# Altium schematic symbol library kmilo17pet-LT_OpAmp_LT1000.SchLib: 2280 symbols (part 26 of 79)
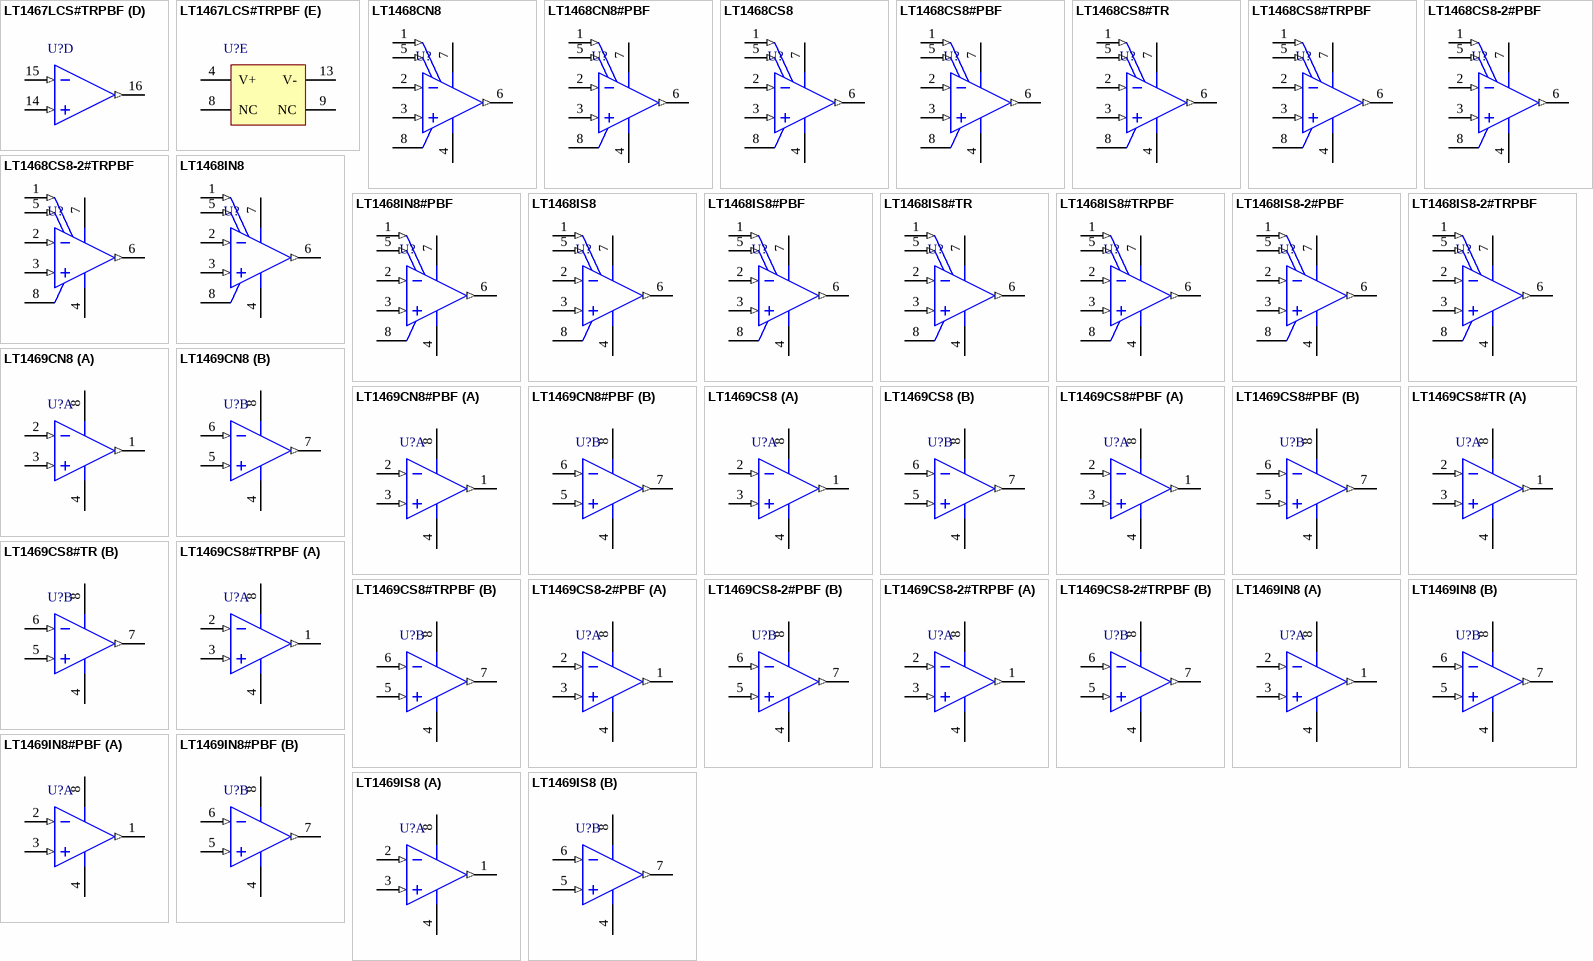
[diagram p130: symbols LT1467LCS#TRPBF to LT1469IS8]

## LT1468CN8
designator U?
Single Channel, 16-Bit Accurate Operational Amplifier, 200 MHz Typical GBW, 30 V/us Typical SR, 10 to 36 V, 8-Pin DIP (N8-8), Commercial; Linear Technology Part Number: LT1468-2; Manufacturer: Linear Technology; PartNumber: LT1468CN8; Channels (#): 1; GBW (MHz) Typical: 200; Is (mA) Typical: 3.9; SR (V/us) Typical: 30; Vos (mV) Typical: 0.03; Vs Max (V): 36; Vs Min (V): 10; DatasheetVersion: Rev. A; PackageVersion: Rev I; PackageReference: LT-N8-8; PackageDescription: 8-Lead PDIP, Body 10.16 x 6.48 mm, Pitch 2.54 mm; Supplier 1: Digi-Key; Supplier Part Number 1: LT1468CN8-ND; Type: VFB; Mounting Technology: Surface Mount; ComponentLink1Description: Manufacturer URL; ComponentLink1URL: http://www.linear.com/; ComponentLink2Description: Datasheet; ComponentLink2URL: http://cds.linear.com/docs/en/datasheet/14682fa.pdf; ComponentLink3Description: Package Specification; ComponentLink3URL: http://cds.linear.com/docs/en/packaging/05081510_I_N8.pdf
footprint LT-N8-8 (DIP, 8-Leads, Body 10.16x6.48mm, Pitch 2.54mm)
pins: 1 NULL (in), 2 -IN (in), 3 +IN (in), 4 V- (power), 5 NULL (in), 6 OUT (out), 7 V+ (power), 8 DNC

## LT1468CN8#PBF
designator U?
Single Channel, 16-Bit Accurate Operational Amplifier, 200 MHz Typical GBW, 30 V/us Typical SR, 10 to 36 V, 8-Pin DIP (N8-8), Commercial, Pb-Free; Linear Technology Part Number: LT1468-2; Manufacturer: Linear Technology; PartNumber: LT1468CN8#PBF; Channels (#): 1; GBW (MHz) Typical: 200; Is (mA) Typical: 3.9; SR (V/us) Typical: 30; Vos (mV) Typical: 0.03; Vs Max (V): 36; Vs Min (V): 10; DatasheetVersion: Rev. A; PackageVersion: Rev I; PackageReference: LT-N8-8; PackageDescription: 8-Lead PDIP, Body 10.16 x 6.48 mm, Pitch 2.54 mm; Supplier 1: Digi-Key; Supplier Part Number 1: LT1468CN8#PBF-ND; Supplier 2: Newark; Supplier Part Number 2: 57M4376; RoHS: Pb-Free; Type: VFB; Mounting Technology: Through Hole; ComponentLink1Description: Manufacturer URL; ComponentLink1URL: http://www.linear.com/; ComponentLink2Description: Datasheet; ComponentLink2URL: http://cds.linear.com/docs/en/datasheet/14682fa.pdf; ComponentLink3Description: Package Specification; ComponentLink3URL: http://cds.linear.com/docs/en/packaging/05081510_I_N8.pdf
footprint LT-N8-8 (DIP, 8-Leads, Body 10.16x6.48mm, Pitch 2.54mm)
pins: 1 NULL (in), 2 -IN (in), 3 +IN (in), 4 V- (power), 5 NULL (in), 6 OUT (out), 7 V+ (power), 8 DNC

## LT1468CS8
designator U?
Single Channel, 16-Bit Accurate Operational Amplifier, 200 MHz Typical GBW, 30 V/us Typical SR, 10 to 36 V, 8-Pin SOIC (S8-8), Commercial; Linear Technology Part Number: LT1468-2; Manufacturer: Linear Technology; PartNumber: LT1468CS8; Channels (#): 1; GBW (MHz) Typical: 200; Is (mA) Typical: 3.9; SR (V/us) Typical: 30; Vos (mV) Typical: 0.03; Vs Max (V): 36; Vs Min (V): 10; DatasheetVersion: Rev. A; PackageVersion: Rev G; PackageReference: LT-S8-8; PackageDescription: 8-Pin Plastic Small Outline, Body 4.9 x 3.9 mm, Pitch 1.27 mm; Supplier 1: Digi-Key; Supplier Part Number 1: LT1468CS8-ND; Supplier 2: Newark; Supplier Part Number 2: 57M4377; Type: VFB; Mounting Technology: Surface Mount; ComponentLink1Description: Manufacturer URL; ComponentLink1URL: http://www.linear.com/; ComponentLink2Description: Datasheet; ComponentLink2URL: http://cds.linear.com/docs/en/datasheet/14682fa.pdf; ComponentLink3Description: Package Specification; ComponentLink3URL: http://cds.linear.com/docs/en/packaging/05081610_G_SO8.pdf
footprint LT-S8-8_N (SOIC, 8-Leads, Body 4.9x3.9mm, Pitch 1.27mm, IPC Medium Density)
footprint LT-S8-8_L (SOIC, 8-Leads, Body 4.9x3.9mm, Pitch 1.27mm, IPC High Density)
footprint LT-S8-8_M (SOIC, 8-Leads, Body 4.9x3.9mm, Pitch 1.27mm, IPC Low Density)
pins: 1 NULL (in), 2 -IN (in), 3 +IN (in), 4 V- (power), 5 NULL (in), 6 OUT (out), 7 V+ (power), 8 DNC

## LT1468CS8#PBF
designator U?
Single Channel, 16-Bit Accurate Operational Amplifier, 200 MHz Typical GBW, 30 V/us Typical SR, 10 to 36 V, 8-Pin SOIC (S8-8), Commercial, Pb-Free; Linear Technology Part Number: LT1468-2; Manufacturer: Linear Technology; PartNumber: LT1468CS8#PBF; Channels (#): 1; GBW (MHz) Typical: 200; Is (mA) Typical: 3.9; SR (V/us) Typical: 30; Vos (mV) Typical: 0.03; Vs Max (V): 36; Vs Min (V): 10; DatasheetVersion: Rev. A; PackageVersion: Rev G; PackageReference: LT-S8-8; PackageDescription: 8-Pin Plastic Small Outline, Body 4.9 x 3.9 mm, Pitch 1.27 mm; Supplier 1: Digi-Key; Supplier Part Number 1: LT1468CS8#PBF-ND; Supplier 2: Farnell; Supplier Part Number 2: 2102597; Supplier 3: Newark; Supplier Part Number 3: 57M4378; RoHS: Pb-Free; Type: VFB; Mounting Technology: Surface Mount; ComponentLink1Description: Manufacturer URL; ComponentLink1URL: http://www.linear.com/; ComponentLink2Description: Datasheet; ComponentLink2URL: http://cds.linear.com/docs/en/datasheet/14682fa.pdf; ComponentLink3Description: Package Specification; ComponentLink3URL: http://cds.linear.com/docs/en/packaging/05081610_G_SO8.pdf
footprint LT-S8-8_N (SOIC, 8-Leads, Body 4.9x3.9mm, Pitch 1.27mm, IPC Medium Density)
footprint LT-S8-8_L (SOIC, 8-Leads, Body 4.9x3.9mm, Pitch 1.27mm, IPC High Density)
footprint LT-S8-8_M (SOIC, 8-Leads, Body 4.9x3.9mm, Pitch 1.27mm, IPC Low Density)
pins: 1 NULL (in), 2 -IN (in), 3 +IN (in), 4 V- (power), 5 NULL (in), 6 OUT (out), 7 V+ (power), 8 DNC

## LT1468CS8#TR
designator U?
Single Channel, 16-Bit Accurate Operational Amplifier, 200 MHz Typical GBW, 30 V/us Typical SR, 10 to 36 V, 8-Pin SOIC (S8-8), Commercial, Reel; Linear Technology Part Number: LT1468-2; Manufacturer: Linear Technology; PartNumber: LT1468CS8#TR; Channels (#): 1; GBW (MHz) Typical: 200; Is (mA) Typical: 3.9; SR (V/us) Typical: 30; Vos (mV) Typical: 0.03; Vs Max (V): 36; Vs Min (V): 10; DatasheetVersion: Rev. A; PackageVersion: Rev G; PackageReference: LT-S8-8; PackageDescription: 8-Pin Plastic Small Outline, Body 4.9 x 3.9 mm, Pitch 1.27 mm; Supplier 1: Digi-Key; Supplier Part Number 1: LT1468CS8#TR-ND; Packing: Reel; Type: VFB; Mounting Technology: Surface Mount; ComponentLink1Description: Manufacturer URL; ComponentLink1URL: http://www.linear.com/; ComponentLink2Description: Datasheet; ComponentLink2URL: http://cds.linear.com/docs/en/datasheet/14682fa.pdf; ComponentLink3Description: Package Specification; ComponentLink3URL: http://cds.linear.com/docs/en/packaging/05081610_G_SO8.pdf
footprint LT-S8-8_N (SOIC, 8-Leads, Body 4.9x3.9mm, Pitch 1.27mm, IPC Medium Density)
footprint LT-S8-8_L (SOIC, 8-Leads, Body 4.9x3.9mm, Pitch 1.27mm, IPC High Density)
footprint LT-S8-8_M (SOIC, 8-Leads, Body 4.9x3.9mm, Pitch 1.27mm, IPC Low Density)
pins: 1 NULL (in), 2 -IN (in), 3 +IN (in), 4 V- (power), 5 NULL (in), 6 OUT (out), 7 V+ (power), 8 DNC

## LT1468CS8#TRPBF
designator U?
Single Channel, 16-Bit Accurate Operational Amplifier, 200 MHz Typical GBW, 30 V/us Typical SR, 10 to 36 V, 8-Pin SOIC (S8-8), Commercial, Pb-Free, Reel; Linear Technology Part Number: LT1468-2; Manufacturer: Linear Technology; PartNumber: LT1468CS8#TRPBF; Channels (#): 1; GBW (MHz) Typical: 200; Is (mA) Typical: 3.9; SR (V/us) Typical: 30; Vos (mV) Typical: 0.03; Vs Max (V): 36; Vs Min (V): 10; DatasheetVersion: Rev. A; PackageVersion: Rev G; PackageReference: LT-S8-8; PackageDescription: 8-Pin Plastic Small Outline, Body 4.9 x 3.9 mm, Pitch 1.27 mm; Supplier 1: Digi-Key; Supplier Part Number 1: LT1468CS8#TRPBF-ND; Supplier 2: Newark; Supplier Part Number 2: 57M4380; Packing: Reel; RoHS: Pb-Free; Type: VFB; Mounting Technology: Surface Mount; ComponentLink1Description: Manufacturer URL; ComponentLink1URL: http://www.linear.com/; ComponentLink2Description: Datasheet; ComponentLink2URL: http://cds.linear.com/docs/en/datasheet/14682fa.pdf; ComponentLink3Description: Package Specification; ComponentLink3URL: http://cds.linear.com/docs/en/packaging/05081610_G_SO8.pdf
footprint LT-S8-8_N (SOIC, 8-Leads, Body 4.9x3.9mm, Pitch 1.27mm, IPC Medium Density)
footprint LT-S8-8_L (SOIC, 8-Leads, Body 4.9x3.9mm, Pitch 1.27mm, IPC High Density)
footprint LT-S8-8_M (SOIC, 8-Leads, Body 4.9x3.9mm, Pitch 1.27mm, IPC Low Density)
pins: 1 NULL (in), 2 -IN (in), 3 +IN (in), 4 V- (power), 5 NULL (in), 6 OUT (out), 7 V+ (power), 8 DNC

## LT1468CS8-2#PBF
designator U?
Single Channel, 16-Bit Accurate Operational Amplifier, Av > 2, 200 MHz Typical GBW, 30 V/us Typical SR, 10 to 36 V, 8-Pin SOIC (S8-8), Commercial, Pb-Free; Linear Technology Part Number: LT1468-2; Manufacturer: Linear Technology; PartNumber: LT1468CS8-2#PBF; Channels (#): 1; GBW (MHz) Typical: 200; Is (mA) Typical: 3.9; SR (V/us) Typical: 30; Vos (mV) Typical: 0.03; Vs Max (V): 36; Vs Min (V): 10; DatasheetVersion: Rev. A; PackageVersion: Rev G; PackageReference: LT-S8-8; PackageDescription: 8-Pin Plastic Small Outline, Body 4.9 x 3.9 mm, Pitch 1.27 mm; Supplier 1: Digi-Key; Supplier Part Number 1: LT1468CS8-2#PBF-ND; RoHS: Pb-Free; Type: VFB; Mounting Technology: Surface Mount; ComponentLink1Description: Manufacturer URL; ComponentLink1URL: http://www.linear.com/; ComponentLink2Description: Datasheet; ComponentLink2URL: http://cds.linear.com/docs/en/datasheet/14682fa.pdf; ComponentLink3Description: Package Specification; ComponentLink3URL: http://cds.linear.com/docs/en/packaging/05081610_G_SO8.pdf
footprint LT-S8-8_N (SOIC, 8-Leads, Body 4.9x3.9mm, Pitch 1.27mm, IPC Medium Density)
footprint LT-S8-8_L (SOIC, 8-Leads, Body 4.9x3.9mm, Pitch 1.27mm, IPC High Density)
footprint LT-S8-8_M (SOIC, 8-Leads, Body 4.9x3.9mm, Pitch 1.27mm, IPC Low Density)
pins: 1 NULL (in), 2 -IN (in), 3 +IN (in), 4 V- (power), 5 NULL (in), 6 OUT (out), 7 V+ (power), 8 DNC

## LT1468CS8-2#TRPBF
designator U?
Single Channel, 16-Bit Accurate Operational Amplifier, Av > 2, 200 MHz Typical GBW, 30 V/us Typical SR, 10 to 36 V, 8-Pin SOIC (S8-8), Commercial, Pb-Free, Reel; Linear Technology Part Number: LT1468-2; Manufacturer: Linear Technology; PartNumber: LT1468CS8-2#TRPBF; Channels (#): 1; GBW (MHz) Typical: 200; Is (mA) Typical: 3.9; SR (V/us) Typical: 30; Vos (mV) Typical: 0.03; Vs Max (V): 36; Vs Min (V): 10; DatasheetVersion: Rev. A; PackageVersion: Rev G; PackageReference: LT-S8-8; PackageDescription: 8-Pin Plastic Small Outline, Body 4.9 x 3.9 mm, Pitch 1.27 mm; Supplier 1: Digi-Key; Supplier Part Number 1: LT1468CS8-2#TRPBF-ND; Packing: Reel; RoHS: Pb-Free; Type: VFB; Mounting Technology: Surface Mount; ComponentLink1Description: Manufacturer URL; ComponentLink1URL: http://www.linear.com/; ComponentLink2Description: Datasheet; ComponentLink2URL: http://cds.linear.com/docs/en/datasheet/14682fa.pdf; ComponentLink3Description: Package Specification; ComponentLink3URL: http://cds.linear.com/docs/en/packaging/05081610_G_SO8.pdf
footprint LT-S8-8_N (SOIC, 8-Leads, Body 4.9x3.9mm, Pitch 1.27mm, IPC Medium Density)
footprint LT-S8-8_L (SOIC, 8-Leads, Body 4.9x3.9mm, Pitch 1.27mm, IPC High Density)
footprint LT-S8-8_M (SOIC, 8-Leads, Body 4.9x3.9mm, Pitch 1.27mm, IPC Low Density)
pins: 1 NULL (in), 2 -IN (in), 3 +IN (in), 4 V- (power), 5 NULL (in), 6 OUT (out), 7 V+ (power), 8 DNC

## LT1468IN8
designator U?
Single Channel, 16-Bit Accurate Operational Amplifier, 200 MHz Typical GBW, 30 V/us Typical SR, 10 to 36 V, 8-Pin DIP (N8-8), Industrial; Linear Technology Part Number: LT1468-2; Manufacturer: Linear Technology; PartNumber: LT1468IN8; Channels (#): 1; GBW (MHz) Typical: 200; Is (mA) Typical: 3.9; SR (V/us) Typical: 30; Vos (mV) Typical: 0.03; Vs Max (V): 36; Vs Min (V): 10; DatasheetVersion: Rev. A; PackageVersion: Rev I; PackageReference: LT-N8-8; PackageDescription: 8-Lead PDIP, Body 10.16 x 6.48 mm, Pitch 2.54 mm; Supplier 1: Digi-Key; Supplier Part Number 1: LT1468IN8-ND; Type: VFB; Mounting Technology: Surface Mount; ComponentLink1Description: Manufacturer URL; ComponentLink1URL: http://www.linear.com/; ComponentLink2Description: Datasheet; ComponentLink2URL: http://cds.linear.com/docs/en/datasheet/14682fa.pdf; ComponentLink3Description: Package Specification; ComponentLink3URL: http://cds.linear.com/docs/en/packaging/05081510_I_N8.pdf
footprint LT-N8-8 (DIP, 8-Leads, Body 10.16x6.48mm, Pitch 2.54mm)
pins: 1 NULL (in), 2 -IN (in), 3 +IN (in), 4 V- (power), 5 NULL (in), 6 OUT (out), 7 V+ (power), 8 DNC

## LT1468IN8#PBF
designator U?
Single Channel, 16-Bit Accurate Operational Amplifier, 200 MHz Typical GBW, 30 V/us Typical SR, 10 to 36 V, 8-Pin DIP (N8-8), Industrial, Pb-Free; Linear Technology Part Number: LT1468-2; Manufacturer: Linear Technology; PartNumber: LT1468IN8#PBF; Channels (#): 1; GBW (MHz) Typical: 200; Is (mA) Typical: 3.9; SR (V/us) Typical: 30; Vos (mV) Typical: 0.03; Vs Max (V): 36; Vs Min (V): 10; DatasheetVersion: Rev. A; PackageVersion: Rev I; PackageReference: LT-N8-8; PackageDescription: 8-Lead PDIP, Body 10.16 x 6.48 mm, Pitch 2.54 mm; Supplier 1: Digi-Key; Supplier Part Number 1: LT1468IN8#PBF-ND; RoHS: Pb-Free; Type: VFB; Mounting Technology: Through Hole; ComponentLink1Description: Manufacturer URL; ComponentLink1URL: http://www.linear.com/; ComponentLink2Description: Datasheet; ComponentLink2URL: http://cds.linear.com/docs/en/datasheet/14682fa.pdf; ComponentLink3Description: Package Specification; ComponentLink3URL: http://cds.linear.com/docs/en/packaging/05081510_I_N8.pdf
footprint LT-N8-8 (DIP, 8-Leads, Body 10.16x6.48mm, Pitch 2.54mm)
pins: 1 NULL (in), 2 -IN (in), 3 +IN (in), 4 V- (power), 5 NULL (in), 6 OUT (out), 7 V+ (power), 8 DNC

## LT1468IS8
designator U?
Single Channel, 16-Bit Accurate Operational Amplifier, 200 MHz Typical GBW, 30 V/us Typical SR, 10 to 36 V, 8-Pin SOIC (S8-8), Industrial; Linear Technology Part Number: LT1468-2; Manufacturer: Linear Technology; PartNumber: LT1468IS8; Channels (#): 1; GBW (MHz) Typical: 200; Is (mA) Typical: 3.9; SR (V/us) Typical: 30; Vos (mV) Typical: 0.03; Vs Max (V): 36; Vs Min (V): 10; DatasheetVersion: Rev. A; PackageVersion: Rev G; PackageReference: LT-S8-8; PackageDescription: 8-Pin Plastic Small Outline, Body 4.9 x 3.9 mm, Pitch 1.27 mm; Supplier 1: Digi-Key; Supplier Part Number 1: LT1468IS8-ND; Supplier 2: Newark; Supplier Part Number 2: 57M4383; Type: VFB; Mounting Technology: Surface Mount; ComponentLink1Description: Manufacturer URL; ComponentLink1URL: http://www.linear.com/; ComponentLink2Description: Datasheet; ComponentLink2URL: http://cds.linear.com/docs/en/datasheet/14682fa.pdf; ComponentLink3Description: Package Specification; ComponentLink3URL: http://cds.linear.com/docs/en/packaging/05081610_G_SO8.pdf
footprint LT-S8-8_N (SOIC, 8-Leads, Body 4.9x3.9mm, Pitch 1.27mm, IPC Medium Density)
footprint LT-S8-8_L (SOIC, 8-Leads, Body 4.9x3.9mm, Pitch 1.27mm, IPC High Density)
footprint LT-S8-8_M (SOIC, 8-Leads, Body 4.9x3.9mm, Pitch 1.27mm, IPC Low Density)
pins: 1 NULL (in), 2 -IN (in), 3 +IN (in), 4 V- (power), 5 NULL (in), 6 OUT (out), 7 V+ (power), 8 DNC

## LT1468IS8#PBF
designator U?
Single Channel, 16-Bit Accurate Operational Amplifier, 200 MHz Typical GBW, 30 V/us Typical SR, 10 to 36 V, 8-Pin SOIC (S8-8), Industrial, Pb-Free; Linear Technology Part Number: LT1468-2; Manufacturer: Linear Technology; PartNumber: LT1468IS8#PBF; Channels (#): 1; GBW (MHz) Typical: 200; Is (mA) Typical: 3.9; SR (V/us) Typical: 30; Vos (mV) Typical: 0.03; Vs Max (V): 36; Vs Min (V): 10; DatasheetVersion: Rev. A; PackageVersion: Rev G; PackageReference: LT-S8-8; PackageDescription: 8-Pin Plastic Small Outline, Body 4.9 x 3.9 mm, Pitch 1.27 mm; Supplier 1: Digi-Key; Supplier Part Number 1: LT1468IS8#PBF-ND; Supplier 2: Farnell; Supplier Part Number 2: 2252718; RoHS: Pb-Free; Type: VFB; Mounting Technology: Surface Mount; ComponentLink1Description: Manufacturer URL; ComponentLink1URL: http://www.linear.com/; ComponentLink2Description: Datasheet; ComponentLink2URL: http://cds.linear.com/docs/en/datasheet/14682fa.pdf; ComponentLink3Description: Package Specification; ComponentLink3URL: http://cds.linear.com/docs/en/packaging/05081610_G_SO8.pdf
footprint LT-S8-8_N (SOIC, 8-Leads, Body 4.9x3.9mm, Pitch 1.27mm, IPC Medium Density)
footprint LT-S8-8_L (SOIC, 8-Leads, Body 4.9x3.9mm, Pitch 1.27mm, IPC High Density)
footprint LT-S8-8_M (SOIC, 8-Leads, Body 4.9x3.9mm, Pitch 1.27mm, IPC Low Density)
pins: 1 NULL (in), 2 -IN (in), 3 +IN (in), 4 V- (power), 5 NULL (in), 6 OUT (out), 7 V+ (power), 8 DNC

## LT1468IS8#TR
designator U?
Single Channel, 16-Bit Accurate Operational Amplifier, 200 MHz Typical GBW, 30 V/us Typical SR, 10 to 36 V, 8-Pin SOIC (S8-8), Industrial, Reel; Linear Technology Part Number: LT1468-2; Manufacturer: Linear Technology; PartNumber: LT1468IS8#TR; Channels (#): 1; GBW (MHz) Typical: 200; Is (mA) Typical: 3.9; SR (V/us) Typical: 30; Vos (mV) Typical: 0.03; Vs Max (V): 36; Vs Min (V): 10; DatasheetVersion: Rev. A; PackageVersion: Rev G; PackageReference: LT-S8-8; PackageDescription: 8-Pin Plastic Small Outline, Body 4.9 x 3.9 mm, Pitch 1.27 mm; Supplier 1: Digi-Key; Supplier Part Number 1: LT1468IS8#TR-ND; Packing: Reel; Type: VFB; Mounting Technology: Surface Mount; ComponentLink1Description: Manufacturer URL; ComponentLink1URL: http://www.linear.com/; ComponentLink2Description: Datasheet; ComponentLink2URL: http://cds.linear.com/docs/en/datasheet/14682fa.pdf; ComponentLink3Description: Package Specification; ComponentLink3URL: http://cds.linear.com/docs/en/packaging/05081610_G_SO8.pdf
footprint LT-S8-8_N (SOIC, 8-Leads, Body 4.9x3.9mm, Pitch 1.27mm, IPC Medium Density)
footprint LT-S8-8_L (SOIC, 8-Leads, Body 4.9x3.9mm, Pitch 1.27mm, IPC High Density)
footprint LT-S8-8_M (SOIC, 8-Leads, Body 4.9x3.9mm, Pitch 1.27mm, IPC Low Density)
pins: 1 NULL (in), 2 -IN (in), 3 +IN (in), 4 V- (power), 5 NULL (in), 6 OUT (out), 7 V+ (power), 8 DNC

## LT1468IS8#TRPBF
designator U?
Single Channel, 16-Bit Accurate Operational Amplifier, 200 MHz Typical GBW, 30 V/us Typical SR, 10 to 36 V, 8-Pin SOIC (S8-8), Industrial, Pb-Free, Reel; Linear Technology Part Number: LT1468-2; Manufacturer: Linear Technology; PartNumber: LT1468IS8#TRPBF; Channels (#): 1; GBW (MHz) Typical: 200; Is (mA) Typical: 3.9; SR (V/us) Typical: 30; Vos (mV) Typical: 0.03; Vs Max (V): 36; Vs Min (V): 10; DatasheetVersion: Rev. A; PackageVersion: Rev G; PackageReference: LT-S8-8; PackageDescription: 8-Pin Plastic Small Outline, Body 4.9 x 3.9 mm, Pitch 1.27 mm; Supplier 1: Digi-Key; Supplier Part Number 1: LT1468IS8#TRPBF-ND; Packing: Reel; RoHS: Pb-Free; Type: VFB; Mounting Technology: Surface Mount; ComponentLink1Description: Manufacturer URL; ComponentLink1URL: http://www.linear.com/; ComponentLink2Description: Datasheet; ComponentLink2URL: http://cds.linear.com/docs/en/datasheet/14682fa.pdf; ComponentLink3Description: Package Specification; ComponentLink3URL: http://cds.linear.com/docs/en/packaging/05081610_G_SO8.pdf
footprint LT-S8-8_N (SOIC, 8-Leads, Body 4.9x3.9mm, Pitch 1.27mm, IPC Medium Density)
footprint LT-S8-8_L (SOIC, 8-Leads, Body 4.9x3.9mm, Pitch 1.27mm, IPC High Density)
footprint LT-S8-8_M (SOIC, 8-Leads, Body 4.9x3.9mm, Pitch 1.27mm, IPC Low Density)
pins: 1 NULL (in), 2 -IN (in), 3 +IN (in), 4 V- (power), 5 NULL (in), 6 OUT (out), 7 V+ (power), 8 DNC

## LT1468IS8-2#PBF
designator U?
Single Channel, 16-Bit Accurate Operational Amplifier, Av > 2, 200 MHz Typical GBW, 30 V/us Typical SR, 10 to 36 V, 8-Pin SOIC (S8-8), Industrial, Pb-Free; Linear Technology Part Number: LT1468-2; Manufacturer: Linear Technology; PartNumber: LT1468IS8-2#PBF; Channels (#): 1; GBW (MHz) Typical: 200; Is (mA) Typical: 3.9; SR (V/us) Typical: 30; Vos (mV) Typical: 0.03; Vs Max (V): 36; Vs Min (V): 10; DatasheetVersion: Rev. A; PackageVersion: Rev G; PackageReference: LT-S8-8; PackageDescription: 8-Pin Plastic Small Outline, Body 4.9 x 3.9 mm, Pitch 1.27 mm; Supplier 1: Digi-Key; Supplier Part Number 1: LT1468IS8-2#PBF-ND; RoHS: Pb-Free; Type: VFB; Mounting Technology: Surface Mount; ComponentLink1Description: Manufacturer URL; ComponentLink1URL: http://www.linear.com/; ComponentLink2Description: Datasheet; ComponentLink2URL: http://cds.linear.com/docs/en/datasheet/14682fa.pdf; ComponentLink3Description: Package Specification; ComponentLink3URL: http://cds.linear.com/docs/en/packaging/05081610_G_SO8.pdf
footprint LT-S8-8_N (SOIC, 8-Leads, Body 4.9x3.9mm, Pitch 1.27mm, IPC Medium Density)
footprint LT-S8-8_L (SOIC, 8-Leads, Body 4.9x3.9mm, Pitch 1.27mm, IPC High Density)
footprint LT-S8-8_M (SOIC, 8-Leads, Body 4.9x3.9mm, Pitch 1.27mm, IPC Low Density)
pins: 1 NULL (in), 2 -IN (in), 3 +IN (in), 4 V- (power), 5 NULL (in), 6 OUT (out), 7 V+ (power), 8 DNC

## LT1468IS8-2#TRPBF
designator U?
Single Channel, 16-Bit Accurate Operational Amplifier, Av > 2, 200 MHz Typical GBW, 30 V/us Typical SR, 10 to 36 V, 8-Pin SOIC (S8-8), Industrial, Pb-Free, Reel; Linear Technology Part Number: LT1468-2; Manufacturer: Linear Technology; PartNumber: LT1468IS8-2#TRPBF; Channels (#): 1; GBW (MHz) Typical: 200; Is (mA) Typical: 3.9; SR (V/us) Typical: 30; Vos (mV) Typical: 0.03; Vs Max (V): 36; Vs Min (V): 10; DatasheetVersion: Rev. A; PackageVersion: Rev G; PackageReference: LT-S8-8; PackageDescription: 8-Pin Plastic Small Outline, Body 4.9 x 3.9 mm, Pitch 1.27 mm; Supplier 1: Digi-Key; Supplier Part Number 1: LT1468IS8-2#TRPBF-ND; Packing: Reel; RoHS: Pb-Free; Type: VFB; Mounting Technology: Surface Mount; ComponentLink1Description: Manufacturer URL; ComponentLink1URL: http://www.linear.com/; ComponentLink2Description: Datasheet; ComponentLink2URL: http://cds.linear.com/docs/en/datasheet/14682fa.pdf; ComponentLink3Description: Package Specification; ComponentLink3URL: http://cds.linear.com/docs/en/packaging/05081610_G_SO8.pdf
footprint LT-S8-8_N (SOIC, 8-Leads, Body 4.9x3.9mm, Pitch 1.27mm, IPC Medium Density)
footprint LT-S8-8_L (SOIC, 8-Leads, Body 4.9x3.9mm, Pitch 1.27mm, IPC High Density)
footprint LT-S8-8_M (SOIC, 8-Leads, Body 4.9x3.9mm, Pitch 1.27mm, IPC Low Density)
pins: 1 NULL (in), 2 -IN (in), 3 +IN (in), 4 V- (power), 5 NULL (in), 6 OUT (out), 7 V+ (power), 8 DNC

## LT1469CN8
designator U?
Dual Channel, 16-Bit Accurate Operational Amplifier, 90 MHz Typical GBW, 22 V/us Typical SR, 6 to 36 V, 8-Pin DIP (N8-8), Commercial; Linear Technology Part Number: LT1469-2; Manufacturer: Linear Technology; PartNumber: LT1469CN8; Channels (#): 2; GBW (MHz) Typical: 90; Is (mA) Typical: 4.1; SR (V/us) Typical: 22; Vos (mV) Typical: 0.05; Vs Max (V): 36; Vs Min (V): 10; PackageVersion: Rev I; PackageReference: LT-N8-8; PackageDescription: 8-Lead PDIP, Body 10.16 x 6.48 mm, Pitch 2.54 mm; Supplier 1: Digi-Key; Supplier Part Number 1: LT1469CN8-ND; Type: VFB; Mounting Technology: Surface Mount; ComponentLink1Description: Manufacturer URL; ComponentLink1URL: http://www.linear.com/; ComponentLink2Description: Datasheet; ComponentLink2URL: http://cds.linear.com/docs/en/datasheet/14692f.pdf; ComponentLink3Description: Package Specification; ComponentLink3URL: http://cds.linear.com/docs/en/packaging/05081510_I_N8.pdf
footprint LT-N8-8 (DIP, 8-Leads, Body 10.16x6.48mm, Pitch 2.54mm)
pins on every part: 4 V- (power) "Positive Supply Voltage of Control Circuitry. This pin is not internally connected to other supply voltage pins and must be externally connected to supply voltage bus with proper bypassing for best performance, see Power (See Datasheet)", 8 V+  (power) "Positive Supply Voltage of Blue Channel Amplifi er. This pin is not internally connected to other supply voltage pins and must be externally connected to the supply voltage bus with proper bypassing for best performance, see (See Datasheet)"
part A pins: 1 OUT A (out), 2 -IN A (in), 3 +IN A (in)
part B pins: 5 +IN B (in), 6 -IN B (in), 7 OUT B (out)

## LT1469CN8#PBF
designator U?
Dual Channel, 16-Bit Accurate Operational Amplifier, 90 MHz Typical GBW, 22 V/us Typical SR, 6 to 36 V, 8-Pin DIP (N8-8), Commercial, Pb-Free; Linear Technology Part Number: LT1469-2; Manufacturer: Linear Technology; PartNumber: LT1469CN8#PBF; Channels (#): 2; GBW (MHz) Typical: 90; Is (mA) Typical: 4.1; SR (V/us) Typical: 22; Vos (mV) Typical: 0.05; Vs Max (V): 36; Vs Min (V): 10; PackageVersion: Rev I; PackageReference: LT-N8-8; PackageDescription: 8-Lead PDIP, Body 10.16 x 6.48 mm, Pitch 2.54 mm; Supplier 1: Digi-Key; Supplier Part Number 1: LT1469CN8#PBF-ND; Supplier 2: Newark; Supplier Part Number 2: 57M4388; RoHS: Pb-Free; Type: VFB; Mounting Technology: Through Hole; ComponentLink1Description: Manufacturer URL; ComponentLink1URL: http://www.linear.com/; ComponentLink2Description: Datasheet; ComponentLink2URL: http://cds.linear.com/docs/en/datasheet/14692f.pdf; ComponentLink3Description: Package Specification; ComponentLink3URL: http://cds.linear.com/docs/en/packaging/05081510_I_N8.pdf
footprint LT-N8-8 (DIP, 8-Leads, Body 10.16x6.48mm, Pitch 2.54mm)
pins on every part: 4 V- (power) "Positive Supply Voltage of Control Circuitry. This pin is not internally connected to other supply voltage pins and must be externally connected to supply voltage bus with proper bypassing for best performance, see Power (See Datasheet)", 8 V+  (power) "Positive Supply Voltage of Blue Channel Amplifi er. This pin is not internally connected to other supply voltage pins and must be externally connected to the supply voltage bus with proper bypassing for best performance, see (See Datasheet)"
part A pins: 1 OUT A (out), 2 -IN A (in), 3 +IN A (in)
part B pins: 5 +IN B (in), 6 -IN B (in), 7 OUT B (out)

## LT1469CS8
designator U?
Dual Channel, 16-Bit Accurate Operational Amplifier, 90 MHz Typical GBW, 22 V/us Typical SR, 6 to 36 V, 8-Pin SOIC (S8-8), Commercial; Linear Technology Part Number: LT1469-2; Manufacturer: Linear Technology; PartNumber: LT1469CS8; Channels (#): 2; GBW (MHz) Typical: 90; Is (mA) Typical: 4.1; SR (V/us) Typical: 22; Vos (mV) Typical: 0.05; Vs Max (V): 36; Vs Min (V): 10; PackageVersion: Rev G; PackageReference: LT-S8-8; PackageDescription: 8-Pin Plastic Small Outline, Body 4.9 x 3.9 mm, Pitch 1.27 mm; Supplier 1: Digi-Key; Supplier Part Number 1: LT1469CS8-ND; Type: VFB; Mounting Technology: Surface Mount; ComponentLink1Description: Manufacturer URL; ComponentLink1URL: http://www.linear.com/; ComponentLink2Description: Datasheet; ComponentLink2URL: http://cds.linear.com/docs/en/datasheet/14692f.pdf; ComponentLink3Description: Package Specification; ComponentLink3URL: http://cds.linear.com/docs/en/packaging/05081610_G_SO8.pdf
footprint LT-S8-8_N (SOIC, 8-Leads, Body 4.9x3.9mm, Pitch 1.27mm, IPC Medium Density)
footprint LT-S8-8_L (SOIC, 8-Leads, Body 4.9x3.9mm, Pitch 1.27mm, IPC High Density)
footprint LT-S8-8_M (SOIC, 8-Leads, Body 4.9x3.9mm, Pitch 1.27mm, IPC Low Density)
pins on every part: 4 V- (power), 8 V+ (power)
part A pins: 1 OUT A (out), 2 -IN A (in), 3 +IN A (in)
part B pins: 5 +IN B (in), 6 -IN B (in), 7 OUT B (out)

## LT1469CS8#PBF
designator U?
Dual Channel, 16-Bit Accurate Operational Amplifier, 90 MHz Typical GBW, 22 V/us Typical SR, 6 to 36 V, 8-Pin SOIC (S8-8), Commercial, Pb-Free; Linear Technology Part Number: LT1469-2; Manufacturer: Linear Technology; PartNumber: LT1469CS8#PBF; Channels (#): 2; GBW (MHz) Typical: 90; Is (mA) Typical: 4.1; SR (V/us) Typical: 22; Vos (mV) Typical: 0.05; Vs Max (V): 36; Vs Min (V): 10; PackageVersion: Rev G; PackageReference: LT-S8-8; PackageDescription: 8-Pin Plastic Small Outline, Body 4.9 x 3.9 mm, Pitch 1.27 mm; Supplier 1: Digi-Key; Supplier Part Number 1: LT1469CS8#PBF-ND; Supplier 2: Farnell; Supplier Part Number 2: 2115805; Supplier 3: Newark; Supplier Part Number 3: 57M4390; RoHS: Pb-Free; Type: VFB; Mounting Technology: Surface Mount; ComponentLink1Description: Manufacturer URL; ComponentLink1URL: http://www.linear.com/; ComponentLink2Description: Datasheet; ComponentLink2URL: http://cds.linear.com/docs/en/datasheet/14692f.pdf; ComponentLink3Description: Package Specification; ComponentLink3URL: http://cds.linear.com/docs/en/packaging/05081610_G_SO8.pdf
footprint LT-S8-8_N (SOIC, 8-Leads, Body 4.9x3.9mm, Pitch 1.27mm, IPC Medium Density)
footprint LT-S8-8_L (SOIC, 8-Leads, Body 4.9x3.9mm, Pitch 1.27mm, IPC High Density)
footprint LT-S8-8_M (SOIC, 8-Leads, Body 4.9x3.9mm, Pitch 1.27mm, IPC Low Density)
pins on every part: 4 V- (power), 8 V+ (power)
part A pins: 1 OUT A (out), 2 -IN A (in), 3 +IN A (in)
part B pins: 5 +IN B (in), 6 -IN B (in), 7 OUT B (out)

## LT1469CS8#TR
designator U?
Dual Channel, 16-Bit Accurate Operational Amplifier, 90 MHz Typical GBW, 22 V/us Typical SR, 6 to 36 V, 8-Pin SOIC (S8-8), Commercial, Reel; Linear Technology Part Number: LT1469-2; Manufacturer: Linear Technology; PartNumber: LT1469CS8#TR; Channels (#): 2; GBW (MHz) Typical: 90; Is (mA) Typical: 4.1; SR (V/us) Typical: 22; Vos (mV) Typical: 0.05; Vs Max (V): 36; Vs Min (V): 10; PackageVersion: Rev G; PackageReference: LT-S8-8; PackageDescription: 8-Pin Plastic Small Outline, Body 4.9 x 3.9 mm, Pitch 1.27 mm; Supplier 1: Digi-Key; Supplier Part Number 1: LT1469CS8#TR-ND; Packing: Reel; Type: VFB; Mounting Technology: Surface Mount; ComponentLink1Description: Manufacturer URL; ComponentLink1URL: http://www.linear.com/; ComponentLink2Description: Datasheet; ComponentLink2URL: http://cds.linear.com/docs/en/datasheet/14692f.pdf; ComponentLink3Description: Package Specification; ComponentLink3URL: http://cds.linear.com/docs/en/packaging/05081610_G_SO8.pdf
footprint LT-S8-8_N (SOIC, 8-Leads, Body 4.9x3.9mm, Pitch 1.27mm, IPC Medium Density)
footprint LT-S8-8_L (SOIC, 8-Leads, Body 4.9x3.9mm, Pitch 1.27mm, IPC High Density)
footprint LT-S8-8_M (SOIC, 8-Leads, Body 4.9x3.9mm, Pitch 1.27mm, IPC Low Density)
pins on every part: 4 V- (power), 8 V+ (power)
part A pins: 1 OUT A (out), 2 -IN A (in), 3 +IN A (in)
part B pins: 5 +IN B (in), 6 -IN B (in), 7 OUT B (out)

## LT1469CS8#TRPBF
designator U?
Dual Channel, 16-Bit Accurate Operational Amplifier, 90 MHz Typical GBW, 22 V/us Typical SR, 6 to 36 V, 8-Pin SOIC (S8-8), Commercial, Pb-Free, Reel; Linear Technology Part Number: LT1469-2; Manufacturer: Linear Technology; PartNumber: LT1469CS8#TRPBF; Channels (#): 2; GBW (MHz) Typical: 90; Is (mA) Typical: 4.1; SR (V/us) Typical: 22; Vos (mV) Typical: 0.05; Vs Max (V): 36; Vs Min (V): 10; PackageVersion: Rev G; PackageReference: LT-S8-8; PackageDescription: 8-Pin Plastic Small Outline, Body 4.9 x 3.9 mm, Pitch 1.27 mm; Supplier 1: Digi-Key; Supplier Part Number 1: LT1469CS8#TRPBF-ND; Packing: Reel; RoHS: Pb-Free; Type: VFB; Mounting Technology: Surface Mount; ComponentLink1Description: Manufacturer URL; ComponentLink1URL: http://www.linear.com/; ComponentLink2Description: Datasheet; ComponentLink2URL: http://cds.linear.com/docs/en/datasheet/14692f.pdf; ComponentLink3Description: Package Specification; ComponentLink3URL: http://cds.linear.com/docs/en/packaging/05081610_G_SO8.pdf
footprint LT-S8-8_N (SOIC, 8-Leads, Body 4.9x3.9mm, Pitch 1.27mm, IPC Medium Density)
footprint LT-S8-8_L (SOIC, 8-Leads, Body 4.9x3.9mm, Pitch 1.27mm, IPC High Density)
footprint LT-S8-8_M (SOIC, 8-Leads, Body 4.9x3.9mm, Pitch 1.27mm, IPC Low Density)
pins on every part: 4 V- (power), 8 V+ (power)
part A pins: 1 OUT A (out), 2 -IN A (in), 3 +IN A (in)
part B pins: 5 +IN B (in), 6 -IN B (in), 7 OUT B (out)

## LT1469CS8-2#PBF
designator U?
Dual Channel, 16-Bit Accurate Operational Amplifier, 200 MHz Typical GBW, 30 V/us Typical SR, 10 to 36 V, 8-Pin SOIC (S8-8), Commercial, Pb-Free; Linear Technology Part Number: LT1469-2; Manufacturer: Linear Technology; PartNumber: LT1469CS8-2#PBF; Channels (#): 2; GBW (MHz) Typical: 200; Is (mA) Typical: 4.1; SR (V/us) Typical: 30; Vos (mV) Typical: 0.05; Vs Max (V): 36; Vs Min (V): 10; PackageVersion: Rev G; PackageReference: LT-S8-8; PackageDescription: 8-Pin Plastic Small Outline, Body 4.9 x 3.9 mm, Pitch 1.27 mm; Supplier 1: Digi-Key; Supplier Part Number 1: LT1469CS8-2#PBF-ND; RoHS: Pb-Free; Type: VFB; Mounting Technology: Surface Mount; ComponentLink1Description: Manufacturer URL; ComponentLink1URL: http://www.linear.com/; ComponentLink2Description: Datasheet; ComponentLink2URL: http://cds.linear.com/docs/en/datasheet/14692f.pdf; ComponentLink3Description: Package Specification; ComponentLink3URL: http://cds.linear.com/docs/en/packaging/05081610_G_SO8.pdf
footprint LT-S8-8_N (SOIC, 8-Leads, Body 4.9x3.9mm, Pitch 1.27mm, IPC Medium Density)
footprint LT-S8-8_L (SOIC, 8-Leads, Body 4.9x3.9mm, Pitch 1.27mm, IPC High Density)
footprint LT-S8-8_M (SOIC, 8-Leads, Body 4.9x3.9mm, Pitch 1.27mm, IPC Low Density)
pins on every part: 4 V- (power), 8 V+ (power)
part A pins: 1 OUT A (out), 2 -IN A (in), 3 +IN A (in)
part B pins: 5 +IN B (in), 6 -IN B (in), 7 OUT B (out)

## LT1469CS8-2#TRPBF
designator U?
Dual Channel, 16-Bit Accurate Operational Amplifier, 200 MHz Typical GBW, 30 V/us Typical SR, 10 to 36 V, 8-Pin SOIC (S8-8), Commercial, Pb-Free, Reel; Linear Technology Part Number: LT1469-2; Manufacturer: Linear Technology; PartNumber: LT1469CS8-2#TRPBF; Channels (#): 2; GBW (MHz) Typical: 200; Is (mA) Typical: 4.1; SR (V/us) Typical: 30; Vos (mV) Typical: 0.05; Vs Max (V): 36; Vs Min (V): 10; PackageVersion: Rev G; PackageReference: LT-S8-8; PackageDescription: 8-Pin Plastic Small Outline, Body 4.9 x 3.9 mm, Pitch 1.27 mm; Supplier 1: Digi-Key; Supplier Part Number 1: LT1469CS8-2#TRPBF-ND; Packing: Reel; RoHS: Pb-Free; Type: VFB; Mounting Technology: Surface Mount; ComponentLink1Description: Manufacturer URL; ComponentLink1URL: http://www.linear.com/; ComponentLink2Description: Datasheet; ComponentLink2URL: http://cds.linear.com/docs/en/datasheet/14692f.pdf; ComponentLink3Description: Package Specification; ComponentLink3URL: http://cds.linear.com/docs/en/packaging/05081610_G_SO8.pdf
footprint LT-S8-8_N (SOIC, 8-Leads, Body 4.9x3.9mm, Pitch 1.27mm, IPC Medium Density)
footprint LT-S8-8_L (SOIC, 8-Leads, Body 4.9x3.9mm, Pitch 1.27mm, IPC High Density)
footprint LT-S8-8_M (SOIC, 8-Leads, Body 4.9x3.9mm, Pitch 1.27mm, IPC Low Density)
pins on every part: 4 V- (power), 8 V+ (power)
part A pins: 1 OUT A (out), 2 -IN A (in), 3 +IN A (in)
part B pins: 5 +IN B (in), 6 -IN B (in), 7 OUT B (out)

## LT1469IN8
designator U?
Dual Channel, 16-Bit Accurate Operational Amplifier, 90 MHz Typical GBW, 22 V/us Typical SR, 6 to 36 V, 8-Pin DIP (N8-8), Industrial; Linear Technology Part Number: LT1469-2; Manufacturer: Linear Technology; PartNumber: LT1469IN8; Channels (#): 2; GBW (MHz) Typical: 90; Is (mA) Typical: 4.1; SR (V/us) Typical: 22; Vos (mV) Typical: 0.05; Vs Max (V): 36; Vs Min (V): 10; PackageVersion: Rev I; PackageReference: LT-N8-8; PackageDescription: 8-Lead PDIP, Body 10.16 x 6.48 mm, Pitch 2.54 mm; Supplier 1: Digi-Key; Supplier Part Number 1: LT1469IN8-ND; Type: VFB; Mounting Technology: Surface Mount; ComponentLink1Description: Manufacturer URL; ComponentLink1URL: http://www.linear.com/; ComponentLink2Description: Datasheet; ComponentLink2URL: http://cds.linear.com/docs/en/datasheet/14692f.pdf; ComponentLink3Description: Package Specification; ComponentLink3URL: http://cds.linear.com/docs/en/packaging/05081510_I_N8.pdf
footprint LT-N8-8 (DIP, 8-Leads, Body 10.16x6.48mm, Pitch 2.54mm)
pins on every part: 4 V- (power), 8 V+ (power)
part A pins: 1 OUT A (out), 2 -IN A (in), 3 +IN A (in)
part B pins: 5 +IN B (in), 6 -IN B (in), 7 OUT B (out)

## LT1469IN8#PBF
designator U?
Dual Channel, 16-Bit Accurate Operational Amplifier, 90 MHz Typical GBW, 22 V/us Typical SR, 6 to 36 V, 8-Pin DIP (N8-8), Industrial, Pb-Free; Linear Technology Part Number: LT1469-2; Manufacturer: Linear Technology; PartNumber: LT1469IN8#PBF; Channels (#): 2; GBW (MHz) Typical: 90; Is (mA) Typical: 4.1; SR (V/us) Typical: 22; Vos (mV) Typical: 0.05; Vs Max (V): 36; Vs Min (V): 10; PackageVersion: Rev I; PackageReference: LT-N8-8; PackageDescription: 8-Lead PDIP, Body 10.16 x 6.48 mm, Pitch 2.54 mm; Supplier 1: Digi-Key; Supplier Part Number 1: LT1469IN8#PBF-ND; RoHS: Pb-Free; Type: VFB; Mounting Technology: Through Hole; ComponentLink1Description: Manufacturer URL; ComponentLink1URL: http://www.linear.com/; ComponentLink2Description: Datasheet; ComponentLink2URL: http://cds.linear.com/docs/en/datasheet/14692f.pdf; ComponentLink3Description: Package Specification; ComponentLink3URL: http://cds.linear.com/docs/en/packaging/05081510_I_N8.pdf
footprint LT-N8-8 (DIP, 8-Leads, Body 10.16x6.48mm, Pitch 2.54mm)
pins on every part: 4 V- (power), 8 V+ (power)
part A pins: 1 OUT A (out), 2 -IN A (in), 3 +IN A (in)
part B pins: 5 +IN B (in), 6 -IN B (in), 7 OUT B (out)

## LT1469IS8
designator U?
Dual Channel, 16-Bit Accurate Operational Amplifier, 90 MHz Typical GBW, 22 V/us Typical SR, 6 to 36 V, 8-Pin SOIC (S8-8), Industrial; Linear Technology Part Number: LT1469-2; Manufacturer: Linear Technology; PartNumber: LT1469IS8; Channels (#): 2; GBW (MHz) Typical: 90; Is (mA) Typical: 4.1; SR (V/us) Typical: 22; Vos (mV) Typical: 0.05; Vs Max (V): 36; Vs Min (V): 10; PackageVersion: Rev G; PackageReference: LT-S8-8; PackageDescription: 8-Pin Plastic Small Outline, Body 4.9 x 3.9 mm, Pitch 1.27 mm; Supplier 1: Digi-Key; Supplier Part Number 1: LT1469IS8-ND; Type: VFB; Mounting Technology: Surface Mount; ComponentLink1Description: Manufacturer URL; ComponentLink1URL: http://www.linear.com/; ComponentLink2Description: Datasheet; ComponentLink2URL: http://cds.linear.com/docs/en/datasheet/14692f.pdf; ComponentLink3Description: Package Specification; ComponentLink3URL: http://cds.linear.com/docs/en/packaging/05081610_G_SO8.pdf
footprint LT-S8-8_N (SOIC, 8-Leads, Body 4.9x3.9mm, Pitch 1.27mm, IPC Medium Density)
footprint LT-S8-8_L (SOIC, 8-Leads, Body 4.9x3.9mm, Pitch 1.27mm, IPC High Density)
footprint LT-S8-8_M (SOIC, 8-Leads, Body 4.9x3.9mm, Pitch 1.27mm, IPC Low Density)
pins on every part: 4 V- (power), 8 V+ (power)
part A pins: 1 OUT A (out), 2 -IN A (in), 3 +IN A (in)
part B pins: 5 +IN B (in), 6 -IN B (in), 7 OUT B (out)

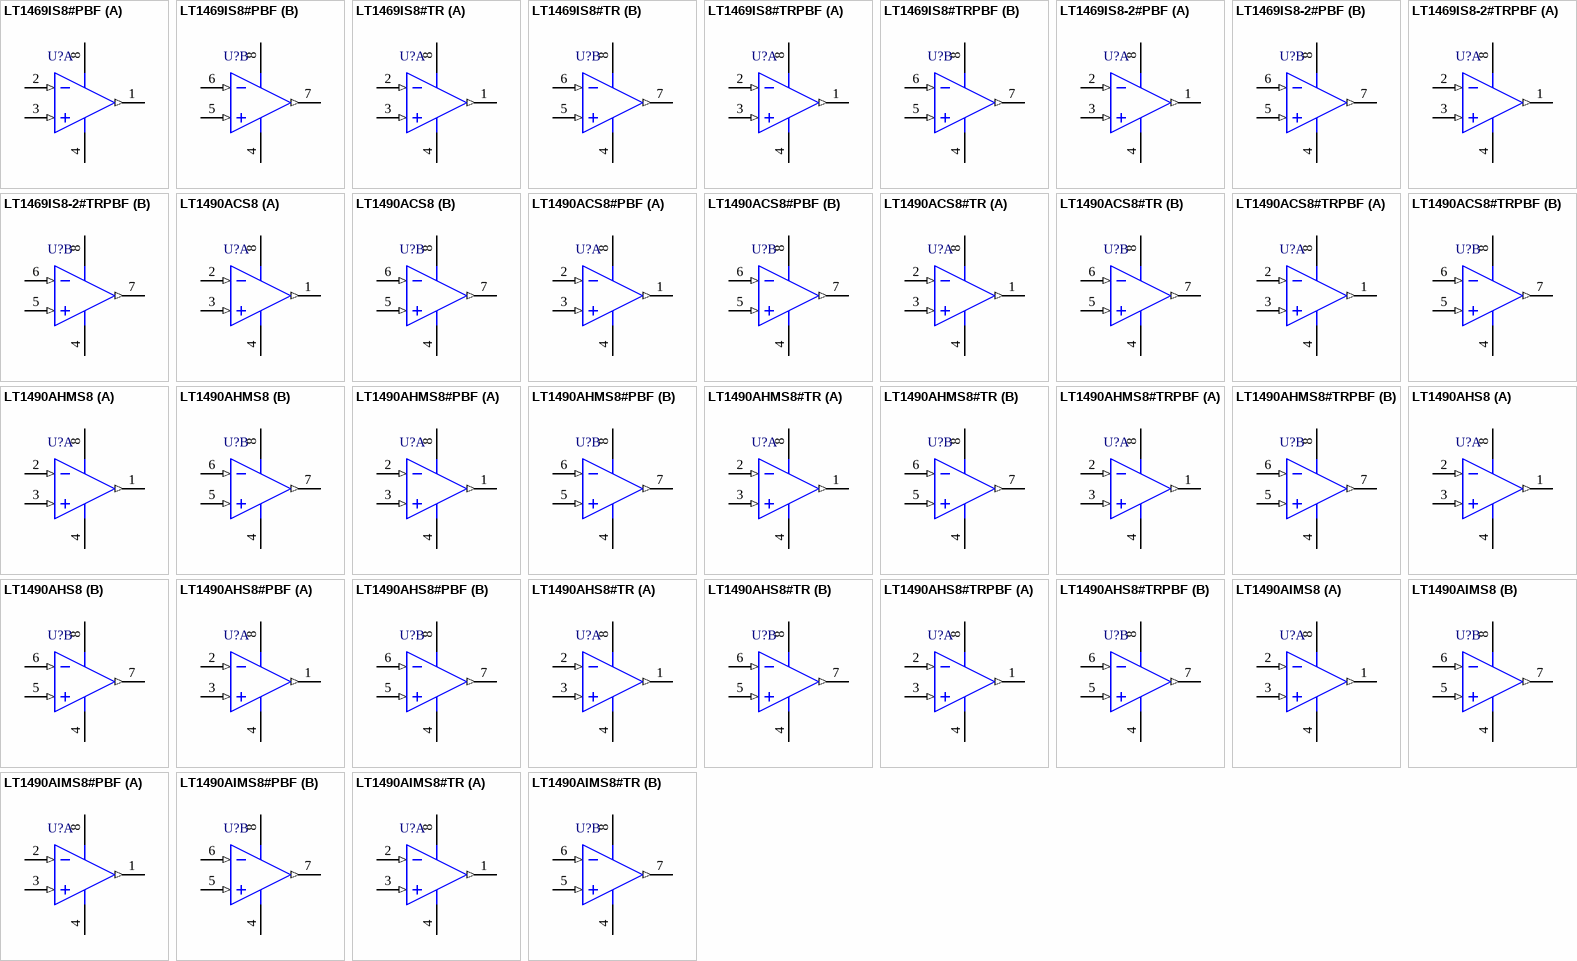
[diagram p43: symbols LT1469IS8#PBF to LT1490AIMS8#TR]

## LT1469IS8#PBF
designator U?
Dual Channel, 16-Bit Accurate Operational Amplifier, 90 MHz Typical GBW, 22 V/us Typical SR, 6 to 36 V, 8-Pin SOIC (S8-8), Industrial, Pb-Free; Linear Technology Part Number: LT1469-2; Manufacturer: Linear Technology; PartNumber: LT1469IS8#PBF; Channels (#): 2; GBW (MHz) Typical: 90; Is (mA) Typical: 4.1; SR (V/us) Typical: 22; Vos (mV) Typical: 0.05; Vs Max (V): 36; Vs Min (V): 10; PackageVersion: Rev G; PackageReference: LT-S8-8; PackageDescription: 8-Pin Plastic Small Outline, Body 4.9 x 3.9 mm, Pitch 1.27 mm; Supplier 1: Digi-Key; Supplier Part Number 1: LT1469IS8#PBF-ND; Supplier 2: Newark; Supplier Part Number 2: 57M4396; RoHS: Pb-Free; Type: VFB; Mounting Technology: Surface Mount; ComponentLink1Description: Manufacturer URL; ComponentLink1URL: http://www.linear.com/; ComponentLink2Description: Datasheet; ComponentLink2URL: http://cds.linear.com/docs/en/datasheet/14692f.pdf; ComponentLink3Description: Package Specification; ComponentLink3URL: http://cds.linear.com/docs/en/packaging/05081610_G_SO8.pdf
footprint LT-S8-8_N (SOIC, 8-Leads, Body 4.9x3.9mm, Pitch 1.27mm, IPC Medium Density)
footprint LT-S8-8_L (SOIC, 8-Leads, Body 4.9x3.9mm, Pitch 1.27mm, IPC High Density)
footprint LT-S8-8_M (SOIC, 8-Leads, Body 4.9x3.9mm, Pitch 1.27mm, IPC Low Density)
pins on every part: 4 V- (power), 8 V+ (power)
part A pins: 1 OUT A (out), 2 -IN A (in), 3 +IN A (in)
part B pins: 5 +IN B (in), 6 -IN B (in), 7 OUT B (out)

## LT1469IS8#TR
designator U?
Dual Channel, 16-Bit Accurate Operational Amplifier, 90 MHz Typical GBW, 22 V/us Typical SR, 6 to 36 V, 8-Pin SOIC (S8-8), Industrial, Reel; Linear Technology Part Number: LT1469-2; Manufacturer: Linear Technology; PartNumber: LT1469IS8#TR; Channels (#): 2; GBW (MHz) Typical: 90; Is (mA) Typical: 4.1; SR (V/us) Typical: 22; Vos (mV) Typical: 0.05; Vs Max (V): 36; Vs Min (V): 10; PackageVersion: Rev G; PackageReference: LT-S8-8; PackageDescription: 8-Pin Plastic Small Outline, Body 4.9 x 3.9 mm, Pitch 1.27 mm; Supplier 1: Digi-Key; Supplier Part Number 1: LT1469IS8#TR-ND; Packing: Reel; Type: VFB; Mounting Technology: Surface Mount; ComponentLink1Description: Manufacturer URL; ComponentLink1URL: http://www.linear.com/; ComponentLink2Description: Datasheet; ComponentLink2URL: http://cds.linear.com/docs/en/datasheet/14692f.pdf; ComponentLink3Description: Package Specification; ComponentLink3URL: http://cds.linear.com/docs/en/packaging/05081610_G_SO8.pdf
footprint LT-S8-8_N (SOIC, 8-Leads, Body 4.9x3.9mm, Pitch 1.27mm, IPC Medium Density)
footprint LT-S8-8_L (SOIC, 8-Leads, Body 4.9x3.9mm, Pitch 1.27mm, IPC High Density)
footprint LT-S8-8_M (SOIC, 8-Leads, Body 4.9x3.9mm, Pitch 1.27mm, IPC Low Density)
pins on every part: 4 V- (power), 8 V+ (power)
part A pins: 1 OUT A (out), 2 -IN A (in), 3 +IN A (in)
part B pins: 5 +IN B (in), 6 -IN B (in), 7 OUT B (out)

## LT1469IS8#TRPBF
designator U?
Dual Channel, 16-Bit Accurate Operational Amplifier, 90 MHz Typical GBW, 22 V/us Typical SR, 6 to 36 V, 8-Pin SOIC (S8-8), Industrial, Pb-Free, Reel; Linear Technology Part Number: LT1469-2; Manufacturer: Linear Technology; PartNumber: LT1469IS8#TRPBF; Channels (#): 2; GBW (MHz) Typical: 90; Is (mA) Typical: 4.1; SR (V/us) Typical: 22; Vos (mV) Typical: 0.05; Vs Max (V): 36; Vs Min (V): 10; PackageVersion: Rev G; PackageReference: LT-S8-8; PackageDescription: 8-Pin Plastic Small Outline, Body 4.9 x 3.9 mm, Pitch 1.27 mm; Supplier 1: Digi-Key; Supplier Part Number 1: LT1469IS8#TRPBF-ND; Supplier 2: Newark; Supplier Part Number 2: 57M4398; Packing: Reel; RoHS: Pb-Free; Type: VFB; Mounting Technology: Surface Mount; ComponentLink1Description: Manufacturer URL; ComponentLink1URL: http://www.linear.com/; ComponentLink2Description: Datasheet; ComponentLink2URL: http://cds.linear.com/docs/en/datasheet/14692f.pdf; ComponentLink3Description: Package Specification; ComponentLink3URL: http://cds.linear.com/docs/en/packaging/05081610_G_SO8.pdf
footprint LT-S8-8_N (SOIC, 8-Leads, Body 4.9x3.9mm, Pitch 1.27mm, IPC Medium Density)
footprint LT-S8-8_L (SOIC, 8-Leads, Body 4.9x3.9mm, Pitch 1.27mm, IPC High Density)
footprint LT-S8-8_M (SOIC, 8-Leads, Body 4.9x3.9mm, Pitch 1.27mm, IPC Low Density)
pins on every part: 4 V- (power), 8 V+ (power)
part A pins: 1 OUT A (out), 2 -IN A (in), 3 +IN A (in)
part B pins: 5 +IN B (in), 6 -IN B (in), 7 OUT B (out)

## LT1469IS8-2#PBF
designator U?
Dual Channel, 16-Bit Accurate Av >= 2 Operational Amplifier, 200 MHz Typical GBW, 30 V/us Typical SR, 10 to 36 V, 8-Pin MSOP (MS-8), Industrial, Pb-Free; Linear Technology Part Number: LT1469-2; Manufacturer: Linear Technology; PartNumber: LT1469IS8-2#PBF; Channels (#): 2; GBW (MHz) Typical: 200; Is (mA) Typical: 4.1; SR (V/us) Typical: 30; Vos (mV) Typical: 0.05; Vs Max (V): 36; Vs Min (V): 10; PackageVersion: Rev G; PackageReference: LT-S8-8; PackageDescription: 8-Pin Plastic Small Outline, Body 4.9 x 3.9 mm, Pitch 1.27 mm; Supplier 1: Digi-Key; Supplier Part Number 1: LT1469IS8-2#PBF-ND; RoHS: Pb-Free; Type: VFB; Mounting Technology: Surface Mount; ComponentLink1Description: Manufacturer URL; ComponentLink1URL: http://www.linear.com/; ComponentLink2Description: Datasheet; ComponentLink2URL: http://cds.linear.com/docs/en/datasheet/14692f.pdf; ComponentLink3Description: Package Specification; ComponentLink3URL: http://cds.linear.com/docs/en/packaging/05081610_G_SO8.pdf
footprint LT-S8-8_N (SOIC, 8-Leads, Body 4.9x3.9mm, Pitch 1.27mm, IPC Medium Density)
footprint LT-S8-8_L (SOIC, 8-Leads, Body 4.9x3.9mm, Pitch 1.27mm, IPC High Density)
footprint LT-S8-8_M (SOIC, 8-Leads, Body 4.9x3.9mm, Pitch 1.27mm, IPC Low Density)
pins on every part: 4 V- (power), 8 V+ (power)
part A pins: 1 OUT A (out), 2 -IN A (in), 3 +IN A (in)
part B pins: 5 +IN B (in), 6 -IN B (in), 7 OUT B (out)

## LT1469IS8-2#TRPBF
designator U?
Dual Channel, 16-Bit Accurate Av >= 2 Operational Amplifier, 200 MHz Typical GBW, 30 V/us Typical SR, 10 to 36 V, 8-Pin SOIC (S8-8), Industrial, Pb-Free, Reel; Linear Technology Part Number: LT1469-2; Manufacturer: Linear Technology; PartNumber: LT1469IS8-2#TRPBF; Channels (#): 2; GBW (MHz) Typical: 200; Is (mA) Typical: 4.1; SR (V/us) Typical: 30; Vos (mV) Typical: 0.05; Vs Max (V): 36; Vs Min (V): 10; PackageVersion: Rev G; PackageReference: LT-S8-8; PackageDescription: 8-Pin Plastic Small Outline, Body 4.9 x 3.9 mm, Pitch 1.27 mm; Supplier 1: Digi-Key; Supplier Part Number 1: LT1469IS8-2#TRPBF-ND; Packing: Reel; RoHS: Pb-Free; Type: VFB; Mounting Technology: Surface Mount; ComponentLink1Description: Manufacturer URL; ComponentLink1URL: http://www.linear.com/; ComponentLink2Description: Datasheet; ComponentLink2URL: http://cds.linear.com/docs/en/datasheet/14692f.pdf; ComponentLink3Description: Package Specification; ComponentLink3URL: http://cds.linear.com/docs/en/packaging/05081610_G_SO8.pdf
footprint LT-S8-8_N (SOIC, 8-Leads, Body 4.9x3.9mm, Pitch 1.27mm, IPC Medium Density)
footprint LT-S8-8_L (SOIC, 8-Leads, Body 4.9x3.9mm, Pitch 1.27mm, IPC High Density)
footprint LT-S8-8_M (SOIC, 8-Leads, Body 4.9x3.9mm, Pitch 1.27mm, IPC Low Density)
pins on every part: 4 V- (power), 8 V+ (power)
part A pins: 1 OUT A (out), 2 -IN A (in), 3 +IN A (in)
part B pins: 5 +IN B (in), 6 -IN B (in), 7 OUT B (out)

## LT1490ACS8
designator U?
Dual Channel, Operational Amplifier, RRIO, Over-The-Top, 0.18 MHz Typical GBW, 0.06 V/us Typical SR, 2 to 44 V, 8-Pin SOIC (S8-8), Commercial; Linear Technology Part Number: LT1490A; Manufacturer: Linear Technology; PartNumber: LT1490ACS8; Channels (#): 2; GBW (MHz) Typical: 0.18; Is (mA) Typical: 0.04; SR (V/us) Typical: 0.06; Vos (mV) Typical: 0.11; Vs Max (V): 44; DatasheetVersion: Rev. D; PackageVersion: Rev G; PackageReference: LT-S8-8; PackageDescription: 8-Pin Plastic Small Outline, Body 4.9 x 3.9 mm, Pitch 1.27 mm; Supplier 1: Digi-Key; Supplier Part Number 1: LT1490ACS8-ND; Supplier 2: Newark; Supplier Part Number 2: 57M4409; Type: VFB; Vs Min (V): 2; Mounting Technology: Surface Mount; ComponentLink1Description: Manufacturer URL; ComponentLink1URL: http://www.linear.com/; ComponentLink2Description: Datasheet; ComponentLink2URL: http://cds.linear.com/docs/en/datasheet/14901afd.pdf; ComponentLink3Description: Package Specification; ComponentLink3URL: http://cds.linear.com/docs/en/packaging/05081610_G_SO8.pdf
footprint LT-S8-8_N (SOIC, 8-Leads, Body 4.9x3.9mm, Pitch 1.27mm, IPC Medium Density)
footprint LT-S8-8_L (SOIC, 8-Leads, Body 4.9x3.9mm, Pitch 1.27mm, IPC High Density)
footprint LT-S8-8_M (SOIC, 8-Leads, Body 4.9x3.9mm, Pitch 1.27mm, IPC Low Density)
pins on every part: 4 V- (power), 8 V+ (power)
part A pins: 1 OUT A (out), 2 -IN A (in), 3 +IN A (in)
part B pins: 5 +IN B (in), 6 -IN B (in), 7 OUT B (out)

## LT1490ACS8#PBF
designator U?
Dual Channel, Operational Amplifier, RRIO, Over-The-Top, 0.18 MHz Typical GBW, 0.06 V/us Typical SR, 2 to 44 V, 8-Pin SOIC (S8-8), Commercial, Pb-Free; Linear Technology Part Number: LT1490A; Manufacturer: Linear Technology; PartNumber: LT1490ACS8#PBF; Channels (#): 2; GBW (MHz) Typical: 0.18; Is (mA) Typical: 0.04; SR (V/us) Typical: 0.06; Vos (mV) Typical: 0.11; Vs Max (V): 44; DatasheetVersion: Rev. D; PackageVersion: Rev G; PackageReference: LT-S8-8; PackageDescription: 8-Pin Plastic Small Outline, Body 4.9 x 3.9 mm, Pitch 1.27 mm; Supplier 1: Digi-Key; Supplier Part Number 1: LT1490ACS8#PBF-ND; Supplier 2: Farnell; Supplier Part Number 2: 1663433; Supplier 3: Newark; Supplier Part Number 3: 57M4410; RoHS: Pb-Free; Type: VFB; Vs Min (V): 2; Mounting Technology: Surface Mount; ComponentLink1Description: Manufacturer URL; ComponentLink1URL: http://www.linear.com/; ComponentLink2Description: Datasheet; ComponentLink2URL: http://cds.linear.com/docs/en/datasheet/14901afd.pdf; ComponentLink3Description: Package Specification; ComponentLink3URL: http://cds.linear.com/docs/en/packaging/05081610_G_SO8.pdf
footprint LT-S8-8_N (SOIC, 8-Leads, Body 4.9x3.9mm, Pitch 1.27mm, IPC Medium Density)
footprint LT-S8-8_L (SOIC, 8-Leads, Body 4.9x3.9mm, Pitch 1.27mm, IPC High Density)
footprint LT-S8-8_M (SOIC, 8-Leads, Body 4.9x3.9mm, Pitch 1.27mm, IPC Low Density)
pins on every part: 4 V- (power), 8 V+ (power)
part A pins: 1 OUT A (out), 2 -IN A (in), 3 +IN A (in)
part B pins: 5 +IN B (in), 6 -IN B (in), 7 OUT B (out)

## LT1490ACS8#TR
designator U?
Dual Channel, Operational Amplifier, RRIO, Over-The-Top, 0.18 MHz Typical GBW, 0.06 V/us Typical SR, 2 to 44 V, 8-Pin SOIC (S8-8), Commercial, Reel; Linear Technology Part Number: LT1490A; Manufacturer: Linear Technology; PartNumber: LT1490ACS8#TR; Channels (#): 2; GBW (MHz) Typical: 0.18; Is (mA) Typical: 0.04; SR (V/us) Typical: 0.06; Vos (mV) Typical: 0.11; Vs Max (V): 44; DatasheetVersion: Rev. D; PackageVersion: Rev G; PackageReference: LT-S8-8; PackageDescription: 8-Pin Plastic Small Outline, Body 4.9 x 3.9 mm, Pitch 1.27 mm; Supplier 1: Digi-Key; Supplier Part Number 1: LT1490ACS8#TR-ND; Packing: Reel; Type: VFB; Vs Min (V): 2; Mounting Technology: Surface Mount; ComponentLink1Description: Manufacturer URL; ComponentLink1URL: http://www.linear.com/; ComponentLink2Description: Datasheet; ComponentLink2URL: http://cds.linear.com/docs/en/datasheet/14901afd.pdf; ComponentLink3Description: Package Specification; ComponentLink3URL: http://cds.linear.com/docs/en/packaging/05081610_G_SO8.pdf
footprint LT-S8-8_N (SOIC, 8-Leads, Body 4.9x3.9mm, Pitch 1.27mm, IPC Medium Density)
footprint LT-S8-8_L (SOIC, 8-Leads, Body 4.9x3.9mm, Pitch 1.27mm, IPC High Density)
footprint LT-S8-8_M (SOIC, 8-Leads, Body 4.9x3.9mm, Pitch 1.27mm, IPC Low Density)
pins on every part: 4 V- (power), 8 V+ (power)
part A pins: 1 OUT A (out), 2 -IN A (in), 3 +IN A (in)
part B pins: 5 +IN B (in), 6 -IN B (in), 7 OUT B (out)